# Altium schematic symbol library LEDs.SchLib: 4 symbols
Pins are listed as number, name and electrical type; pins without a type are passive.

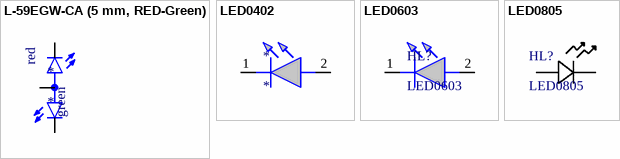
[diagram p0: symbols L-59EGW-CA (5 mm, RED-Green) to LED0805]

## L-59EGW-CA (5 mm, RED-Green)
designator *
footprint L-59EGW-CA
pins: 1 CR, 2 A, 3 CG
text: red; green

## LED0402
designator *
footprint LED0402
pins: 1 K, 2 A

## LED0603
designator HL?
footprint LED0603
pins: 1 K, 2 A

## LED0805
designator HL?
footprint LED0805
pins: 1, 2